# EAGLE library part MC05/11 (library con-phoenix-250)
COMBICON MC - 1881532
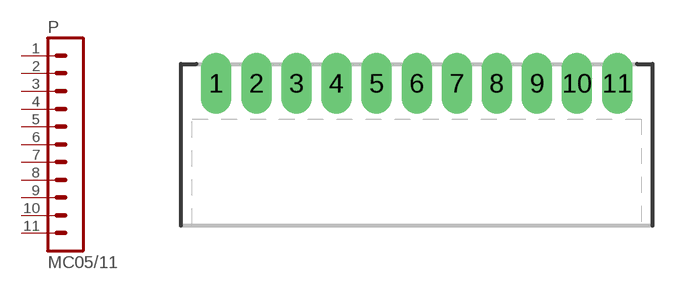
[diagram p4: symbol with the pads of MC05/11; footprint MC05/11]

Designator prefix P

## MC05/11  [MC05/11]
1  1  pas
2  2  pas
3  3  pas
4  4  pas
5  5  pas
6  6  pas
7  7  pas
8  8  pas
9  9  pas
10  10  pas
11  11  pas

## Footprint MC05/11 (pad centres in mm)
HEADER
drill 1.27 long: 1 -12.5,0; 2 -10,0; 3 -7.5,0; 4 -5,0; 5 -2.5,0; 6 0,0; 7 2.5,0; 8 5,0; 9 7.5,0; 10 10,0; 11 12.5,0